# Altium footprint library SMC.PcbLib: 1 footprints
Each footprint in its own frame and in the unit in brackets; x right, y up, seen from the top. Pads: shape width x height; smd on the part's side, far side on the other; paste and mask are expansions set on the pad; w line width, h text height; cw(c..) or ccw(c..) is an arc to the next point about the centre after c.
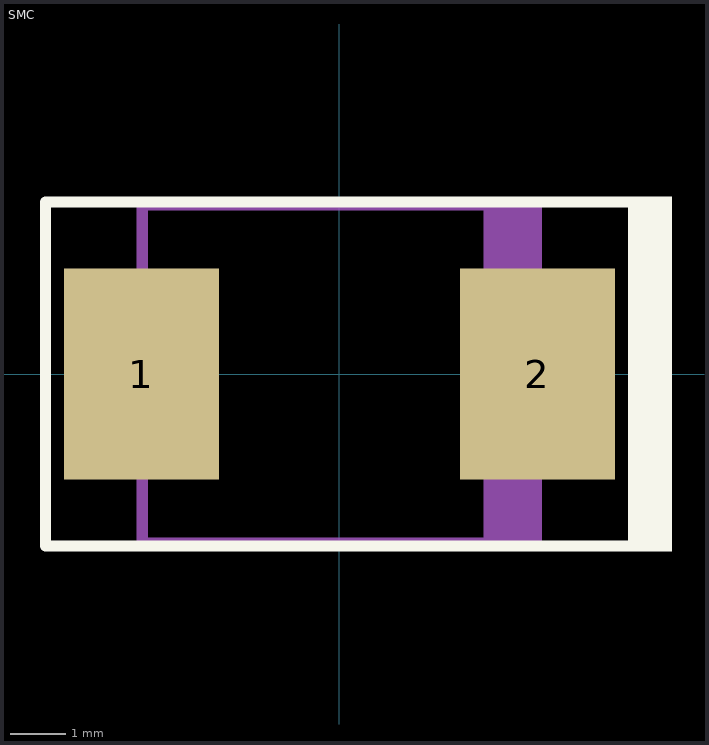
[diagram p0: the footprint, top view; thin cyan lines are the x and y axes]

## SMC [mil]
height 94.88
pads (2):
  rect 110x150 smd: 1(-140.49,0) 2(140.49,0)
Top Overlay:
  rectangle: 208.66,-125.98 236.22,125.98
  lines w7.87: -208.66,-122.05 208.66,-122.05 208.66,122.05 -208.66,122.05 -208.66,-122.05
Mechanical 7:
  rectangle: 102.31,-120.08 139.96,120.08
  lines w7.87: -139.96,-120.08 -139.96,120.08 139.96,120.08 139.96,-120.08 -139.96,-120.08
  text "+" at -122.05,-35.43 h118.11
3D body "SMC_ONS.step": height 97.01, standoff 0, extent -140,-120 140,120